# Altium footprint library hirose-df13.PcbLib: 1 footprints
Each footprint in its own frame and in the unit in brackets; x right, y up, seen from the top. Pads: shape width x height; smd on the part's side, far side on the other; paste and mask are expansions set on the pad; w line width, h text height; cw(c..) or ccw(c..) is an arc to the next point about the centre after c.
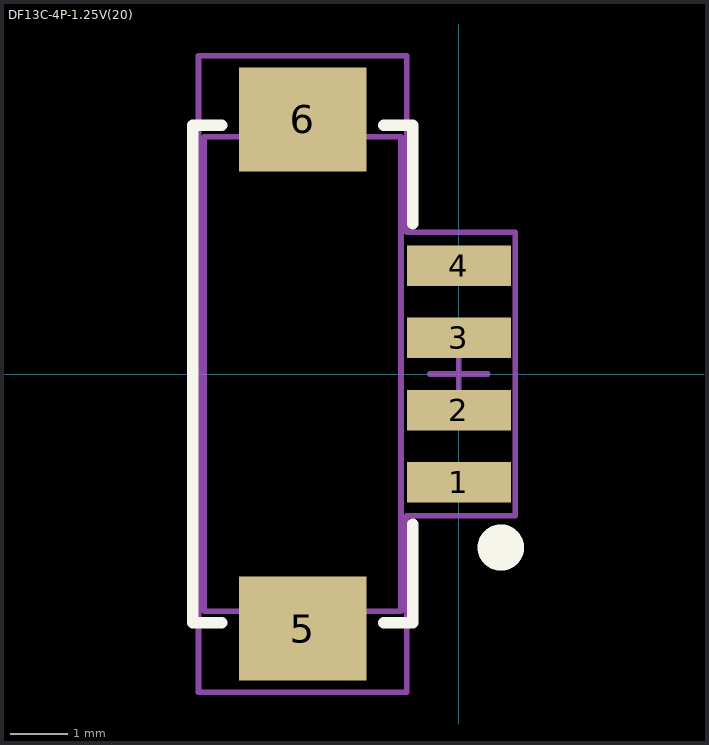
[diagram p0: the footprint, top view; thin cyan lines are the x and y axes]

## DF13C-4P-1.25V(20) [mm] "4pos, 1.25mm Wire to Board Connector, Header, SMT, Vertical"
height 4.8
pads (6):
  rect 1.8x0.7 smd: 1(0,-1.875) 2(0,-0.625) 3(0,0.625) 4(0,1.875)
  rect 2.2x1.8 smd: 5(-2.7,-4.4) 6(-2.7,4.4)
Top Overlay:
  circle w0.4: c0.725,-3 r0.2
  lines w0.2: -4.1,-4.3 -4.6,-4.3 -4.6,4.3 -4.1,4.3 ; -1.3,-4.3 -0.8,-4.3 -0.8,-2.6 ; -1.3,4.3 -0.8,4.3 -0.8,2.6
Mechanical 13:
  lines w0.1: -0.5,0 0.5,0 ; 0,-0.5 0,0.5 ; -4.4,-4.1 -4.4,4.1 -1,4.1 -1,-4.1 -4.4,-4.1
Mechanical 15:
  lines w0.1: -4.5,-5.5 -0.9,-5.5 -0.9,-2.45 -0.7,-2.45 0.975,-2.45 0.975,2.45 -0.7,2.45 -0.9,2.45 -0.9,5.5 -4.5,5.5 -4.5,-5.5
  text ".Designator" at -1.2,-3.05 h0.5
3D body: height 4.82, standoff 0.02, extent -4.4,-4.825 0.5,4.825